# Altium footprint library BMS_Devices.PcbLib: 136 footprints (part 7 of 9)
Each footprint in its own frame and in the unit in brackets; x right, y up, seen from the top. Pads: shape width x height; smd on the part's side, far side on the other; paste and mask are expansions set on the pad; w line width, h text height; cw(c..) or ccw(c..) is an arc to the next point about the centre after c.
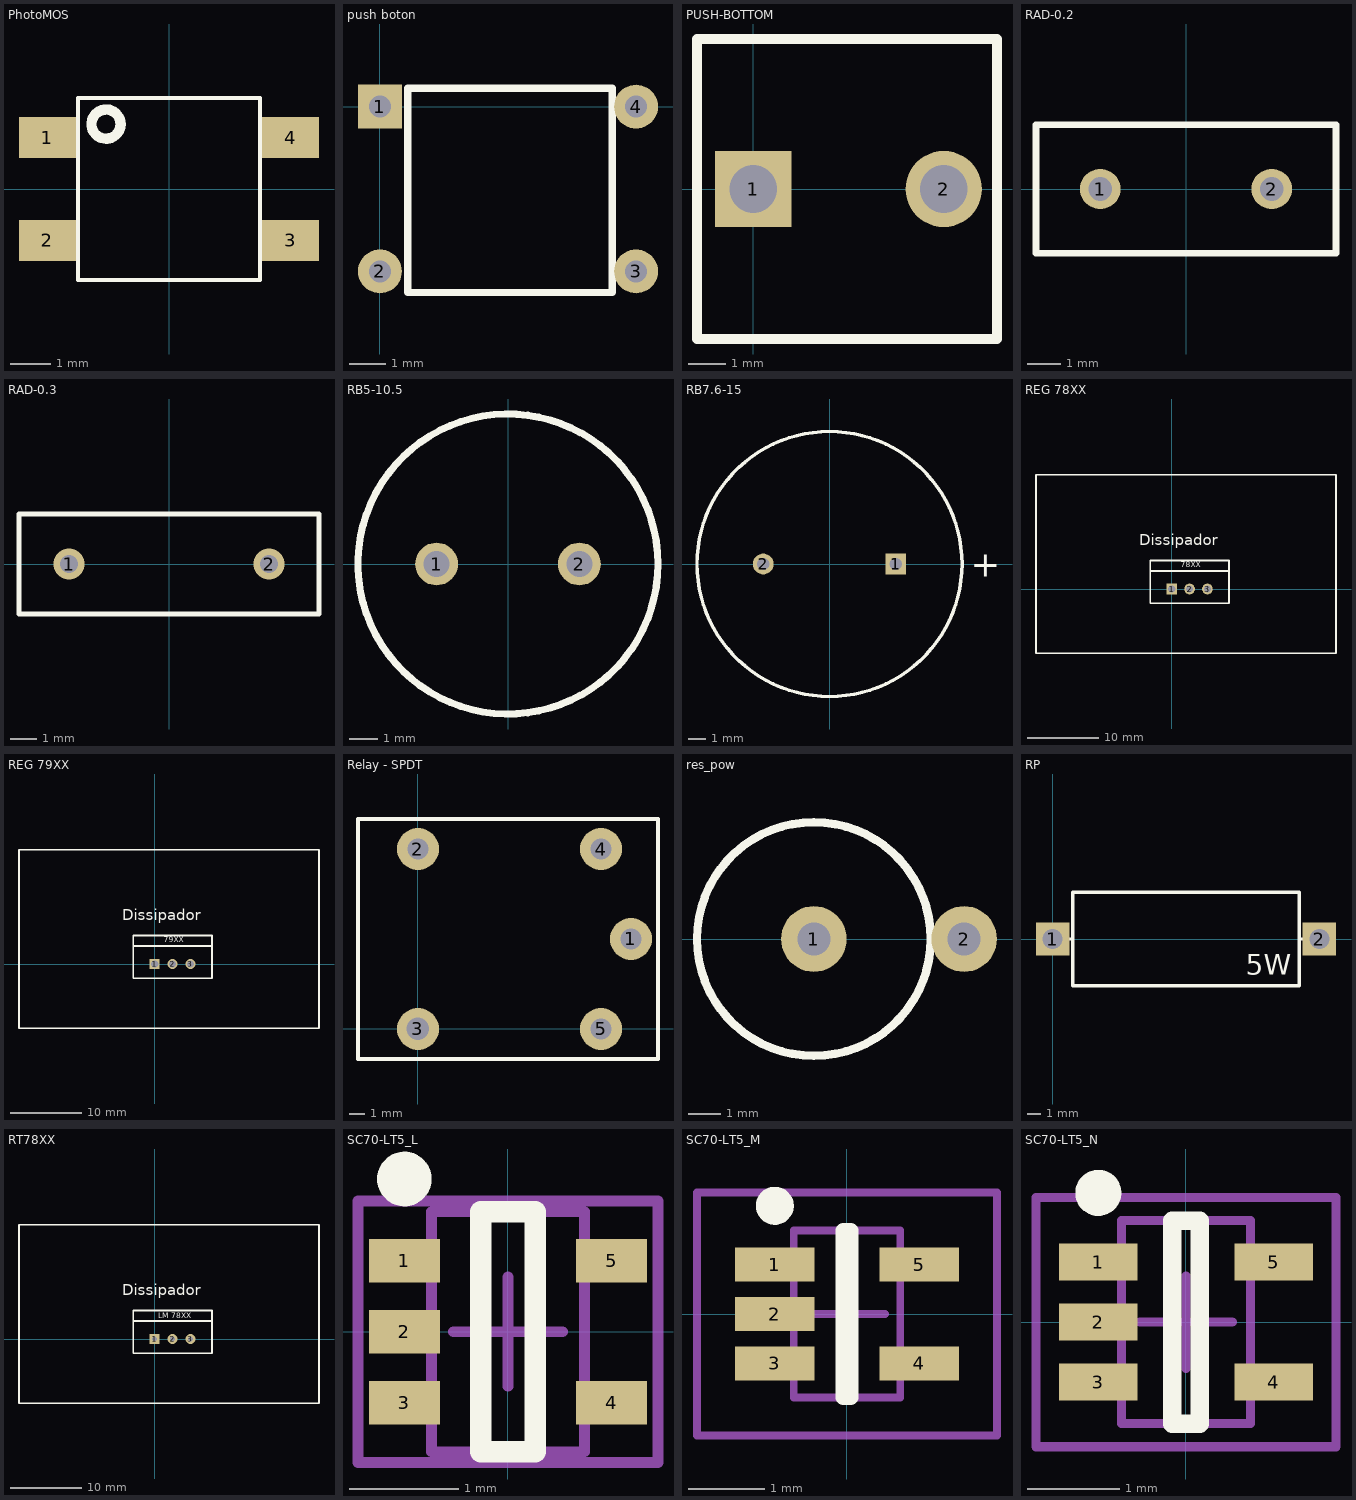
[diagram p6: the footprints below, top view; thin cyan lines are the x and y axes]

## PhotoMOS [mm] "PhotoMOS"
height 2.9
pads (4):
  rect 1.4x1 smd: 1(-3,1.27) 2(-3,-1.27) 3(3,-1.27) 4(3,1.27)
Top Overlay:
  circle w0.254: c-1.553,1.6 r0.359
  lines w0.1: -2.25,-2.25 2.25,-2.25 2.25,2.25 -2.25,2.25 -2.25,-2.25

## push boton [mm]
pads (4):
  rect 1.2x1.2 hole 0.6: 1(0,0)
  round 1.2 hole 0.6: 2(0,-4.5) 3(7,-4.5) 4(7,0)
Top Overlay:
  lines w0.2: 0.762,-5.08 0.762,0.508 6.35,0.508 6.35,-5.08 0.762,-5.08

## PUSH-BOTTOM [mil]
pads (2):
  rect 80x80 hole 50: 1(0,0)
  round 80 hole 50: 2(200,0)
Top Overlay:
  lines w10: -59.06,-157.48 255.91,-157.48 255.91,157.48 -59.06,157.48 -59.06,-157.48

## RAD-0.2 [mm] "Radial Cap, Thru-Hole; 2 Leads; 0.2 in Pin Spacing"
pads (2):
  round 1.2 hole 0.7: 1(-2.54,0) 2(2.54,0)
Top Overlay:
  lines w0.2: -4.445,-1.905 4.445,-1.905 4.445,1.905 -4.445,1.905 -4.445,-1.905

## RAD-0.3 [mm] "Radial Cap, Thru-Hole; 2 Leads; 0.3 in Pin Spacing"
height 6
pads (2):
  round 1.2 hole 0.7: 1(-3.81,0) 2(3.81,0)
Top Overlay:
  lines w0.2: -5.715,-1.905 -5.715,1.905 5.715,1.905 5.715,-1.905 -5.715,-1.905

## RB5-10.5 [mm] "Motor, General Kind; 2 Leads"
pads (2):
  round 1.5 hole 0.9: 1(-2.5,0) 2(2.5,0)
Top Overlay:
  circle w0.25: c0,0 r5.25
Mechanical 1:
  circle w0.02: c0,0 r5.25

## RB7.6-15 [mm] "Polarized Capacitor (Radial); 2 Leads"
pads (2):
  rect 1.2x1.2 hole 0.7: 1(3.81,0)
  round 1.2 hole 0.7: 2(-3.81,0)
Top Overlay:
  circle w0.2: c0,0 r7.62
  text "+" at 8.132,-0.737 h1.5

## REG 78XX [mm]
pads (3):
  rect 1.5x1.5 hole 1: 1(0,0)
  round 1.5 hole 1: 2(2.5,0) 3(5,0)
Top Overlay:
  lines w0.254: -3,2.54 8,2.54 ; -19,-9 -19,16 23,16 23,-9 -19,-9 ; -3,-2 8,-2 8,4 -3,4 -3,-2
  text "78XX" at 1.27,3.048 h0.75
  text "Dissipador" at -4.572,6.096 h1.52

## REG 79XX [mm]
pads (3):
  rect 1.4x1.4 hole 1: 1(0,0)
  round 1.4 hole 1: 2(2.5,0) 3(5,0)
Top Overlay:
  lines w0.254: -3,2.54 8,2.54 ; -19,-9 -19,16 23,16 23,-9 -19,-9 ; -3,-2 8,-2 8,4 -3,4 -3,-2
  text "79XX" at 1.27,3.048 h0.75
  text "Dissipador" at -4.572,6.096 h1.52

## Relay - SPDT [mm]
pads (5):
  round 2.8 hole 1.4: 1(14.2,6) 2(0,12) 4(12.2,12) 5(12.2,0)
  round 2.8 hole 1.5: 3(0,0)
Top Overlay:
  lines w0.254: -4,-2 -4,14 16,14 16,-2 -4,-2

## res_pow [mm]
pads (2):
  round 2 hole 1: 1(6.35,0) 2(10.922,0)
Top Overlay:
  circle w0.254: c6.35,0 r3.556

## RP [mm]
height 5
pads (2):
  rect 2.5x2.5 hole 1.5: 1(0,0) 2(20,0)
Top Overlay:
  lines w0.254: 0,0 1.5,0 ; 18.5,0 20,0 ; 1.5,-3.5 1.5,3.5 18.5,3.5 18.5,-3.5 1.5,-3.5
  text "5W" at 14.478,-2.667 h1.52
3D body: height 8, standoff 0, extent 1.501,-3.499 18.499,3.499

## RT78XX [mm]
pads (3):
  rect 1.4x1.4 hole 0.7: 1(0,0)
  round 1.4 hole 0.7: 2(2.5,0) 3(5,0)
Top Overlay:
  lines w0.254: -3,2.54 8,2.54 ; -19,-9 -19,16 23,16 23,-9 -19,-9 ; -3,-2 8,-2 8,4 -3,4 -3,-2
  text "LM 78XX" at 0.508,2.9 h0.75
  text "Dissipador" at -4.572,6.096 h1.52

## SC70-LT5_L [mm] "SOT353, 5-Leads, Body 2x1.3mm, Pitch 0.65mm, Lead Span 2.1mm, IPC High Density"
height 1.1
pads (5):
  rect 0.65x0.4 smd: 1(-0.95,0.65) 2(-0.95,0) 3(-0.95,-0.65) 4(0.95,-0.65) 5(0.95,0.65)
Top Overlay:
  circle w0.25: c-0.95,1.4 r0.125
  lines w0.2: -0.25,-1.1 -0.25,1.1 0.25,1.1 0.25,-1.1 -0.25,-1.1
Mechanical 13:
  lines w0.1: -0.7,-1.1 0.7,-1.1 0.7,1.1 -0.7,1.1 -0.7,-1.1
Mechanical 15:
  lines w0.1: -0.5,0 0.5,0 ; 0,-0.5 0,0.5 ; -1.375,-1.2 1.375,-1.2 1.375,1.2 -1.375,1.2 -1.375,-1.2
3D body: height 1.1, standoff 0, extent -0.7,-1.1 0.7,1.1

## SC70-LT5_M [mm] "SOT353, 5-Leads, Body 2x1.3mm, Pitch 0.65mm, Lead Span 2.1mm, IPC Low Density"
height 1.1
pads (5):
  rect 1.05x0.45 smd: 1(-0.95,0.65) 2(-0.95,0) 3(-0.95,-0.65) 4(0.95,-0.65) 5(0.95,0.65)
Top Overlay:
  circle w0.25: c-0.95,1.425 r0.125
  lines w0.2: -0.05,-1.1 -0.05,1.1 0.05,1.1 0.05,-1.1 -0.05,-1.1
Mechanical 13:
  lines w0.1: -0.7,-1.1 0.7,-1.1 0.7,1.1 -0.7,1.1 -0.7,-1.1
Mechanical 15:
  lines w0.1: -0.5,0 0.5,0 ; 0,-0.5 0,0.5 ; -1.975,-1.6 1.975,-1.6 1.975,1.6 -1.975,1.6 -1.975,-1.6
3D body: height 1.1, standoff 0, extent -0.7,-1.1 0.7,1.1

## SC70-LT5_N [mm] "SOT353, 5-Leads, Body 2x1.3mm, Pitch 0.65mm, Lead Span 2.1mm, IPC Medium Density"
height 1.1
pads (5):
  rect 0.85x0.4 smd: 1(-0.95,0.65) 2(-0.95,0) 3(-0.95,-0.65) 4(0.95,-0.65) 5(0.95,0.65)
Top Overlay:
  circle w0.25: c-0.95,1.4 r0.125
  lines w0.2: -0.15,-1.1 0.15,-1.1 0.15,1.1 -0.15,1.1 -0.15,-1.1
Mechanical 13:
  lines w0.1: -0.7,-1.1 -0.7,1.1 0.7,1.1 0.7,-1.1 -0.7,-1.1
Mechanical 15:
  lines w0.1: -0.5,0 0.5,0 ; 0,-0.5 0,0.5 ; -1.625,-1.35 -1.625,1.35 1.625,1.35 1.625,-1.35 -1.625,-1.35
3D body: height 1.1, standoff 0, extent -0.7,-1.1 0.7,1.1